# Altium footprint library RCLAMP0504FAPTCT.PcbLib: 1 footprints
Each footprint in its own frame and in the unit in brackets; x right, y up, seen from the top. Pads: shape width x height; smd on the part's side, far side on the other; paste and mask are expansions set on the pad; w line width, h text height; cw(c..) or ccw(c..) is an arc to the next point about the centre after c.
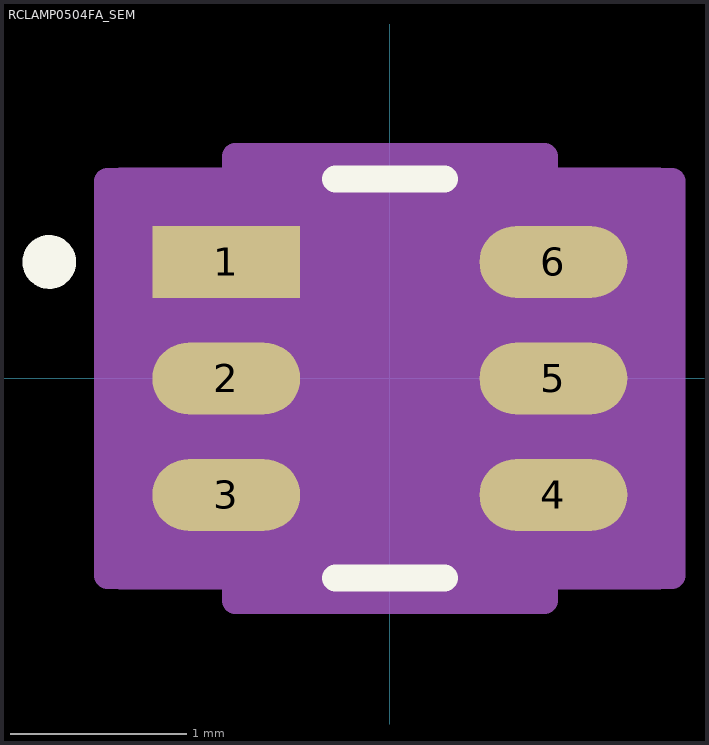
[diagram p0: the footprint, top view; thin cyan lines are the x and y axes]

## RCLAMP0504FA_SEM [mil]
pads (6):
  rect 33x16 smd paste+0 mask+0: 1(-36.5,26)
  oval 33x16 smd paste+0 mask+0: 2(-36.5,0) 3(-36.5,-26) 4(36.5,-26) 5(36.5,0) 6(36.5,26)
Top Overlay:
  circle w6: c-76,26 r3
  lines w6: -12.17,-44.5 12.17,-44.5 ; -12.17,44.5 12.17,44.5
Mechanical 5:
  region: 60.5,-47 -60.5,-47 -60.5,47 60.5,47
Mechanical 13:
  circle w0: c-14.5,26 r1.5
  lines w0: -12,39.5 ccw(c0,39.5) 12,39.5
  lines w1: -24.5,-39.5 24.5,-39.5 24.5,39.5 -24.5,39.5 -24.5,-39.5
Mechanical 15:
  region: -34.5,-44 -63,-44 -63,44 -34.5,44 -34.5,49.5 34.5,49.5 34.5,44 63,44 63,-44 34.5,-44 34.5,-49.5 -34.5,-49.5
  lines w6: -63,-44 -63,44 -34.5,44 -34.5,49.5 34.5,49.5 34.5,44 63,44 63,-44 34.5,-44 34.5,-49.5 -34.5,-49.5 -34.5,-44 -63,-44
3D body "RCLAMP0504FA_SEM.step": height 43.11, standoff 0, extent -39.21,-39.49 39.21,39.49